# Altium footprint library Switch.PcbLib: 50 footprints (part 3 of 4)
Each footprint in its own frame and in the unit in brackets; x right, y up, seen from the top. Pads: shape width x height; smd on the part's side, far side on the other; paste and mask are expansions set on the pad; w line width, h text height; cw(c..) or ccw(c..) is an arc to the next point about the centre after c.
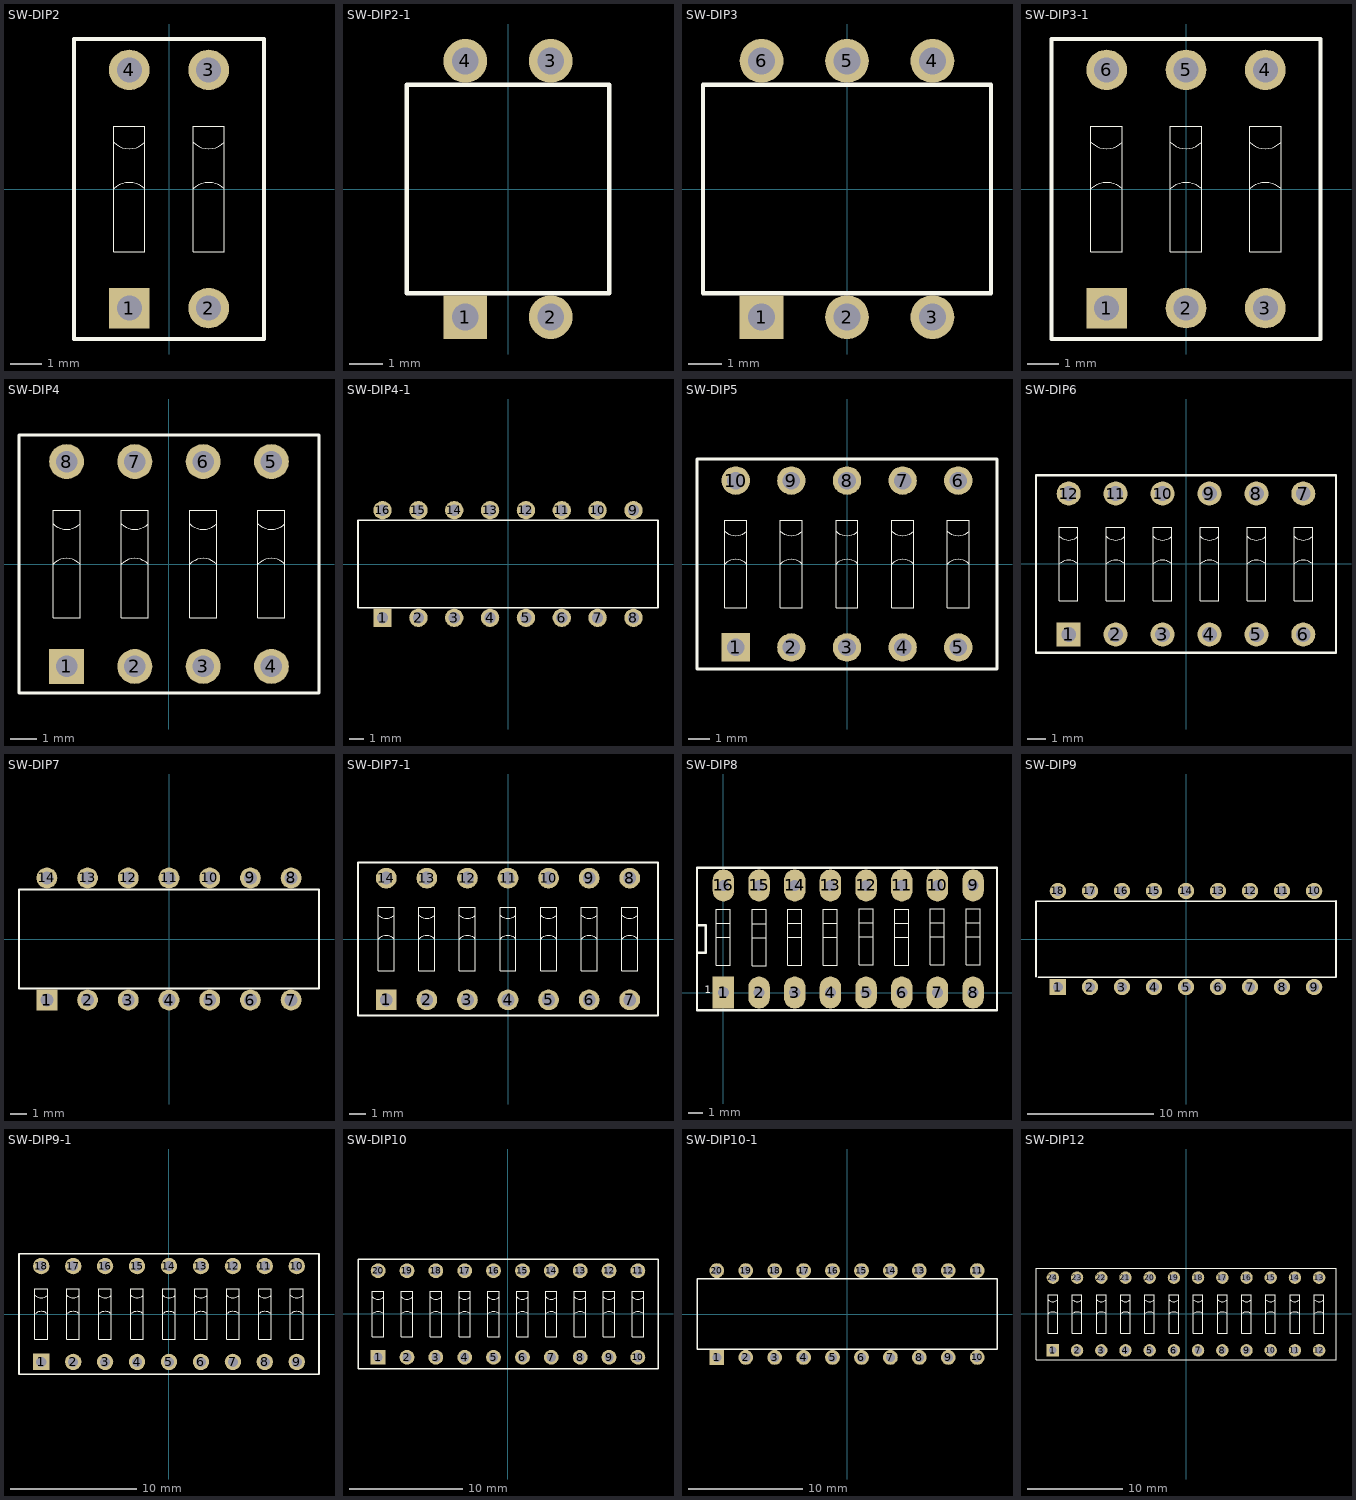
[diagram p2: the footprints below, top view; thin cyan lines are the x and y axes]

## SW-DIP2 [mm] "02p, 2.54mm Pitch, Horizontal, Box Type, THT, flat Actuator, red, without Tape, Tube"
height 5.2
pads (4):
  rect 1.3x1.3 hole 0.8: 1(-1.27,-3.81)
  round 1.3 hole 0.8: 2(1.27,-3.81) 3(1.27,3.81) 4(-1.27,3.81)
Top Overlay:
  lines w0.025: -1.77,0 cw(c-1.27,-0.5) -0.77,0 ; -1.77,1.5 ccw(c-1.27,2) -0.77,1.5 ; 0.77,0 cw(c1.27,-0.5) 1.77,0 ; 0.77,1.5 ccw(c1.27,2) 1.77,1.5 ; -1.77,-2 -1.77,2 -0.77,2 -0.77,-2 -1.77,-2 ; 0.77,-2 0.77,2 1.77,2 1.77,-2 0.77,-2
  lines w0.127: -3.04,-4.8 3.04,-4.8 ; -3.04,-4.8 -3.04,4.8 ; -3.04,-4.8 3.04,-4.8 ; -3.04,-4.8 -3.04,4.8 ; -3.04,4.8 3.04,4.8 ; -3.04,4.8 3.04,4.8 ; 3.04,-4.8 3.04,4.8 ; 3.04,-4.8 3.04,4.8
3D body "418117170902.stp": height 5.4, standoff -3.8, extent -3.04,-4.7 3.04,4.9

## SW-DIP2-1 [mm]
height 3.9
pads (4):
  rect 1.3x1.3 hole 0.8: 1(-1.27,-3.81)
  round 1.3 hole 0.8: 2(1.27,-3.81) 3(1.27,3.81) 4(-1.27,3.81)
Top Overlay:
  lines w0.127: -3.01,-3.1 -3.01,3.1 3.01,3.1 3.01,-3.1 -3.01,-3.1
3D body "418127270902.stp": height 3.95, standoff -3.65, extent -3.01,-3.985 3.01,3.885

## SW-DIP3 [mm] "03p, 2.54mm Pitch, Horizontal, IC Type, THT, raised Actuator, black, without Tape, Tube"
height 3.9
pads (6):
  rect 1.3x1.3 hole 0.8: 1(-2.54,-3.81)
  round 1.3 hole 0.8: 2(0,-3.81) 3(2.54,-3.81) 4(2.54,3.81) 5(0,3.81) 6(-2.54,3.81)
Top Overlay:
  lines w0.127: -4.28,-3.1 -4.28,3.1 4.28,3.1 4.28,-3.1 -4.28,-3.1
3D body "418127270903.stp": height 3.95, standoff -3.65, extent -4.28,-3.985 4.28,3.885

## SW-DIP3-1 [mm] "03p, 2.54mm Pitch, Horizontal, Box Type, THT, flat Actuator, red, without Tape, Tube"
height 5.2
pads (6):
  rect 1.3x1.3 hole 0.8: 1(-2.54,-3.81)
  round 1.3 hole 0.8: 2(0,-3.81) 3(2.54,-3.81) 4(2.54,3.81) 5(0,3.81) 6(-2.54,3.81)
Top Overlay:
  lines w0.025: -3.04,0 cw(c-2.54,-0.5) -2.04,0 ; -3.04,1.5 ccw(c-2.54,2) -2.04,1.5 ; -0.5,0 cw(c0,-0.5) 0.5,0 ; -0.5,1.5 ccw(c0,2) 0.5,1.5 ; 2.04,0 cw(c2.54,-0.5) 3.04,0 ; 2.04,1.5 ccw(c2.54,2) 3.04,1.5 ; -3.04,-2 -2.04,-2 -2.04,2 -3.04,2 -3.04,-2 ; -0.5,-2 0.5,-2 0.5,2 -0.5,2 -0.5,-2 ; 2.04,-2 3.04,-2 3.04,2 2.04,2 2.04,-2
  lines w0.127: -4.31,-4.8 -4.31,4.8 ; -4.31,-4.8 4.31,-4.8 ; -4.31,-4.8 -4.31,4.8 ; -4.31,-4.8 4.31,-4.8 ; -4.31,4.8 4.31,4.8 ; -4.31,4.8 4.31,4.8 ; 4.31,-4.8 4.31,4.8 ; 4.31,-4.8 4.31,4.8
3D body "418117170903.stp": height 5.4, standoff -3.8, extent -4.31,-4.8 4.31,4.8

## SW-DIP4 [mm] "04p, 2.54mm Pitch, Horizontal, Box Type, THT, flat Actuator, red, without Tape, Tube"
height 5.2
pads (8):
  rect 1.3x1.3 hole 0.8: 1(-3.81,-3.81)
  round 1.3 hole 0.8: 2(-1.27,-3.81) 3(1.27,-3.81) 4(3.81,-3.81) 5(3.81,3.81) 6(1.27,3.81) 7(-1.27,3.81) 8(-3.81,3.81)
Top Overlay:
  lines w0.025: -4.31,0 cw(c-3.81,-0.5) -3.31,0 ; -4.31,1.5 ccw(c-3.81,2) -3.31,1.5 ; -1.77,0 cw(c-1.27,-0.5) -0.77,0 ; -1.77,1.5 ccw(c-1.27,2) -0.77,1.5 ; 0.77,0 cw(c1.27,-0.5) 1.77,0 ; 0.77,1.5 ccw(c1.27,2) 1.77,1.5 ; 3.31,0 cw(c3.81,-0.5) 4.31,0 ; 3.31,1.5 ccw(c3.81,2) 4.31,1.5 ; -4.31,-2 -3.31,-2 -3.31,2 -4.31,2 -4.31,-2 ; -1.77,-2 -0.77,-2 -0.77,2 -1.77,2 -1.77,-2 ; 0.77,-2 1.77,-2 1.77,2 0.77,2 0.77,-2 ; 3.31,-2 4.31,-2 4.31,2 3.31,2 3.31,-2
  lines w0.127: -5.58,-4.8 5.58,-4.8 ; -5.58,-4.8 -5.58,4.8 ; -5.58,-4.8 5.58,-4.8 ; -5.58,-4.8 -5.58,4.8 ; -5.58,4.8 5.58,4.8 ; -5.58,4.8 5.58,4.8 ; 5.58,-4.8 5.58,4.8 ; 5.58,-4.8 5.58,4.8
3D body "418117170904.stp": height 5.4, standoff -3.8, extent -5.58,-4.8 5.58,4.8

## SW-DIP4-1 [mm] "08p, 2.54mm Pitch, Horizontal, IC Type, THT, raised Actuator, black, without Tape, Tube"
height 3.9
pads (16):
  rect 1.3x1.3 hole 0.8: 1(-8.89,-3.81)
  round 1.3 hole 0.8: 2(-6.35,-3.81) 3(-3.81,-3.81) 4(-1.27,-3.81) 5(1.27,-3.81) 6(3.81,-3.81) 7(6.35,-3.81) 8(8.89,-3.81) 9(8.89,3.81) 10(6.35,3.81) 11(3.81,3.81) 12(1.27,3.81) 13(-1.27,3.81) 14(-3.81,3.81) 15(-6.35,3.81) 16(-8.89,3.81)
Top Overlay:
  lines w0.127: -10.63,-3.1 10.63,-3.1 10.63,3.1 -10.63,3.1 -10.63,-3.1
3D body "418127270908.stp": height 3.95, standoff -3.65, extent -10.63,-3.985 10.63,3.885

## SW-DIP5 [mm] "05p, 2.54mm Pitch, Horizontal, Box Type, THT, flat Actuator, red, without Tape, Tube"
height 5.2
pads (10):
  rect 1.3x1.3 hole 0.8: 1(-5.08,-3.81)
  round 1.3 hole 0.8: 2(-2.54,-3.81) 3(0,-3.81) 4(2.54,-3.81) 5(5.08,-3.81) 6(5.08,3.81) 7(2.54,3.81) 8(0,3.81) 9(-2.54,3.81) 10(-5.08,3.81)
Top Overlay:
  lines w0.025: -5.58,0 cw(c-5.08,-0.5) -4.58,0 ; -5.58,1.5 ccw(c-5.08,2) -4.58,1.5 ; -3.04,0 cw(c-2.54,-0.5) -2.04,0 ; -3.04,1.5 ccw(c-2.54,2) -2.04,1.5 ; -0.5,0 cw(c0,-0.5) 0.5,0 ; -0.5,1.5 ccw(c0,2) 0.5,1.5 ; 2.04,0 cw(c2.54,-0.5) 3.04,0 ; 2.04,1.5 ccw(c2.54,2) 3.04,1.5 ; 4.58,0 cw(c5.08,-0.5) 5.58,0 ; 4.58,1.5 ccw(c5.08,2) 5.58,1.5 ; -5.58,-2 -4.58,-2 -4.58,2 -5.58,2 -5.58,-2 ; -3.04,-2 -2.04,-2 -2.04,2 -3.04,2 -3.04,-2 ; -0.5,-2 0.5,-2 0.5,2 -0.5,2 -0.5,-2 ; 2.04,-2 3.04,-2 3.04,2 2.04,2 2.04,-2 ; 4.58,-2 5.58,-2 5.58,2 4.58,2 4.58,-2
  lines w0.127: -6.85,-4.8 6.85,-4.8 ; -6.85,-4.8 -6.85,4.8 ; -6.85,-4.8 6.85,-4.8 ; -6.85,-4.8 -6.85,4.8 ; -6.85,4.8 6.85,4.8 ; -6.85,4.8 6.85,4.8 ; 6.85,-4.8 6.85,4.8 ; 6.85,-4.8 6.85,4.8
3D body "418117170905.stp": height 5.4, standoff -3.8, extent -6.85,-4.8 6.85,4.8

## SW-DIP6 [mm] "06p, 2.54mm Pitch, Horizontal, Box Type, THT, flat Actuator, red, without Tape, Tube"
height 5.2
pads (12):
  rect 1.3x1.3 hole 0.8: 1(-6.35,-3.81)
  round 1.3 hole 0.8: 2(-3.81,-3.81) 3(-1.27,-3.81) 4(1.27,-3.81) 5(3.81,-3.81) 6(6.35,-3.81) 7(6.35,3.81) 8(3.81,3.81) 9(1.27,3.81) 10(-1.27,3.81) 11(-3.81,3.81) 12(-6.35,3.81)
Top Overlay:
  lines w0.025: -6.85,0 cw(c-6.35,-0.5) -5.85,0 ; -6.85,1.5 ccw(c-6.35,2) -5.85,1.5 ; -4.31,0 cw(c-3.81,-0.5) -3.31,0 ; -4.31,1.5 ccw(c-3.81,2) -3.31,1.5 ; -1.77,0 cw(c-1.27,-0.5) -0.77,0 ; -1.77,1.5 ccw(c-1.27,2) -0.77,1.5 ; 0.77,0 cw(c1.27,-0.5) 1.77,0 ; 0.77,1.5 ccw(c1.27,2) 1.77,1.5 ; 3.31,0 cw(c3.81,-0.5) 4.31,0 ; 3.31,1.5 ccw(c3.81,2) 4.31,1.5 ; 5.85,0 cw(c6.35,-0.5) 6.85,0 ; 5.85,1.5 ccw(c6.35,2) 6.85,1.5 ; -6.85,-2 -6.85,2 -5.85,2 -5.85,-2 -6.85,-2 ; -4.31,-2 -4.31,2 -3.31,2 -3.31,-2 -4.31,-2 ; -1.77,-2 -1.77,2 -0.77,2 -0.77,-2 -1.77,-2 ; 0.77,-2 0.77,2 1.77,2 1.77,-2 0.77,-2 ; 3.31,-2 3.31,2 4.31,2 4.31,-2 3.31,-2 ; 5.85,-2 5.85,2 6.85,2 6.85,-2 5.85,-2
  lines w0.127: -8.12,-4.8 -8.12,4.8 ; -8.12,-4.8 8.12,-4.8 ; -8.12,-4.8 -8.12,4.8 ; -8.12,-4.8 8.12,-4.8 ; -8.12,4.8 8.12,4.8 ; -8.12,4.8 8.12,4.8 ; 8.12,-4.8 8.12,4.8 ; 8.12,-4.8 8.12,4.8
3D body "418117170906.stp": height 5.4, standoff -3.8, extent -8.12,-4.8 8.12,4.8

## SW-DIP7 [mm] "07p, 2.54mm Pitch, Horizontal, IC Type, THT, raised Actuator, black, without Tape, Tube"
height 3.9
pads (14):
  rect 1.3x1.3 hole 0.8: 1(-7.62,-3.81)
  round 1.3 hole 0.8: 2(-5.08,-3.81) 3(-2.54,-3.81) 4(0,-3.81) 5(2.54,-3.81) 6(5.08,-3.81) 7(7.62,-3.81) 8(7.62,3.81) 9(5.08,3.81) 10(2.54,3.81) 11(0,3.81) 12(-2.54,3.81) 13(-5.08,3.81) 14(-7.62,3.81)
Top Overlay:
  lines w0.127: -9.36,-3.1 9.36,-3.1 9.36,3.1 -9.36,3.1 -9.36,-3.1
3D body "418127270907.stp": height 3.95, standoff -3.65, extent -9.36,-3.985 9.36,3.885

## SW-DIP7-1 [mm] "07p, 2.54mm Pitch, Horizontal, Box Type, THT, flat Actuator, red, without Tape, Tube"
height 5.2
pads (14):
  rect 1.3x1.3 hole 0.8: 1(-7.62,-3.81)
  round 1.3 hole 0.8: 2(-5.08,-3.81) 3(-2.54,-3.81) 4(0,-3.81) 5(2.54,-3.81) 6(5.08,-3.81) 7(7.62,-3.81) 8(7.62,3.81) 9(5.08,3.81) 10(2.54,3.81) 11(0,3.81) 12(-2.54,3.81) 13(-5.08,3.81) 14(-7.62,3.81)
Top Overlay:
  lines w0.025: -8.12,0 cw(c-7.62,-0.5) -7.12,0 ; -8.12,1.5 ccw(c-7.62,2) -7.12,1.5 ; -5.58,0 cw(c-5.08,-0.5) -4.58,0 ; -5.58,1.5 ccw(c-5.08,2) -4.58,1.5 ; -3.04,0 cw(c-2.54,-0.5) -2.04,0 ; -3.04,1.5 ccw(c-2.54,2) -2.04,1.5 ; -0.5,0 cw(c0,-0.5) 0.5,0 ; -0.5,1.5 ccw(c0,2) 0.5,1.5 ; 2.04,0 cw(c2.54,-0.5) 3.04,0 ; 2.04,1.5 ccw(c2.54,2) 3.04,1.5 ; 4.58,0 cw(c5.08,-0.5) 5.58,0 ; 4.58,1.5 ccw(c5.08,2) 5.58,1.5 ; 7.12,0 cw(c7.62,-0.5) 8.12,0 ; 7.12,1.5 ccw(c7.62,2) 8.12,1.5 ; -8.12,-2 -7.12,-2 -7.12,2 -8.12,2 -8.12,-2 ; -5.58,-2 -4.58,-2 -4.58,2 -5.58,2 -5.58,-2 ; -3.04,-2 -2.04,-2 -2.04,2 -3.04,2 -3.04,-2 ; -0.5,-2 0.5,-2 0.5,2 -0.5,2 -0.5,-2 ; 2.04,-2 3.04,-2 3.04,2 2.04,2 2.04,-2 ; 4.58,-2 5.58,-2 5.58,2 4.58,2 4.58,-2 ; 7.12,-2 8.12,-2 8.12,2 7.12,2 7.12,-2
  lines w0.127: -9.39,-4.8 9.39,-4.8 ; -9.39,-4.8 -9.39,4.8 ; -9.39,-4.8 9.39,-4.8 ; -9.39,-4.8 -9.39,4.8 ; -9.39,4.8 9.39,4.8 ; -9.39,4.8 9.39,4.8 ; 9.39,-4.8 9.39,4.8 ; 9.39,-4.8 9.39,4.8
3D body "418117170907.stp": height 5.4, standoff -3.8, extent -9.39,-4.8 9.39,4.8

## SW-DIP8 [mil] "16 PIN, W 300mil, Pin to pin 100mil For Switch"
height 100
pads (16):
  rect 60x90 hole 31.5: 1(0,0)
  oval 60x90 hole 31.5: 2(100,0) 3(200,0) 4(300,0) 5(400,0) 6(500,0) 7(600,0) 8(700,0) 9(700,300) 10(600,300) 11(500,300) 12(400,300) 13(300,300) 14(200,300) 15(100,300) 16(0,300)
Top Overlay:
  lines w1.5: -19.68,155 19.68,155 ; -19.68,194.37 19.68,194.37 ; 80.31,154 119.69,154 ; 80.31,193.37 119.69,193.37 ; 180.31,155 219.69,155 ; 180.31,194.37 219.69,194.37 ; 280.31,155 319.69,155 ; 280.31,194.37 319.69,194.37 ; 380.31,156 419.69,156 ; 380.31,195.37 419.69,195.37 ; 480.31,155 519.68,155 ; 480.31,194.37 519.68,194.37 ; 580.32,156 619.68,156 ; 580.32,195.37 619.68,195.37 ; 680.32,156 719.68,156 ; 680.32,195.37 719.68,195.37 ; -19.68,76.26 19.68,76.26 19.68,233.74 -19.68,233.74 -19.68,76.26 ; 80.31,75.26 119.69,75.26 119.69,232.74 80.31,232.74 80.31,75.26 ; 180.31,76.26 219.69,76.26 219.69,233.74 180.31,233.74 180.31,76.26 ; 280.31,76.26 319.69,76.26 319.69,233.74 280.31,233.74 280.31,76.26 ; 380.31,77.26 419.69,77.26 419.69,234.74 380.31,234.74 380.31,77.26 ; 480.31,76.26 519.68,76.26 519.68,233.74 480.31,233.74 480.31,76.26 ; 580.32,77.26 619.68,77.26 619.68,234.74 580.32,234.74 580.32,77.26 ; 680.32,77.26 719.68,77.26 719.68,234.74 680.32,234.74 680.32,77.26
  lines w7: -74,69.5 -74,234 ; -74,111 -49,111 -49,189 -73,189 -74,190 ; -74,125 -74,-49 -73,-50 767,-50 767,350 -74,350 -74,175
  text "1" at -52,-2 h20
3D body "SW3dPS-DIP SWITCH 8 POS CTS 206.STEP": height 324.8, standoff -137.8, extent -92.91,-40 792.91,345.04

## SW-DIP9 [mm] "09p, 2.54mm Pitch, Horizontal, IC Type, THT, raised Actuator, black, without Tape, Tube"
height 3.9
pads (18):
  rect 1.3x1.3 hole 0.8: 1(-10.16,-3.81)
  round 1.3 hole 0.8: 2(-7.62,-3.81) 3(-5.08,-3.81) 4(-2.54,-3.81) 5(0,-3.81) 6(2.54,-3.81) 7(5.08,-3.81) 8(7.62,-3.81) 9(10.16,-3.81) 10(10.16,3.81) 11(7.62,3.81) 12(5.08,3.81) 13(2.54,3.81) 14(0,3.81) 15(-2.54,3.81) 16(-5.08,3.81) 17(-7.62,3.81) 18(-10.16,3.81)
Top Overlay:
  lines w0.127: -11.9,-3 -11.9,3 11.9,3 ; -11.7,-3.025 11.9,-3.025 11.9,3.025
3D body "418127270909.stp": height 3.95, standoff -3.65, extent -11.9,-3.985 11.9,3.885

## SW-DIP9-1 [mm] "09p, 2.54mm Pitch, Horizontal, Box Type, THT, flat Actuator, red, without Tape, Tube"
height 5.2
pads (18):
  rect 1.3x1.3 hole 0.8: 1(-10.16,-3.81)
  round 1.3 hole 0.8: 2(-7.62,-3.81) 3(-5.08,-3.81) 4(-2.54,-3.81) 5(0,-3.81) 6(2.54,-3.81) 7(5.08,-3.81) 8(7.62,-3.81) 9(10.16,-3.81) 10(10.16,3.81) 11(7.62,3.81) 12(5.08,3.81) 13(2.54,3.81) 14(0,3.81) 15(-2.54,3.81) 16(-5.08,3.81) 17(-7.62,3.81) 18(-10.16,3.81)
Top Overlay:
  lines w0.025: -10.66,0 cw(c-10.16,-0.5) -9.66,0 ; -10.66,1.5 ccw(c-10.16,2) -9.66,1.5 ; -8.12,0 cw(c-7.62,-0.5) -7.12,0 ; -8.12,1.5 ccw(c-7.62,2) -7.12,1.5 ; -5.58,0 cw(c-5.08,-0.5) -4.58,0 ; -5.58,1.5 ccw(c-5.08,2) -4.58,1.5 ; -3.04,0 cw(c-2.54,-0.5) -2.04,0 ; -3.04,1.5 ccw(c-2.54,2) -2.04,1.5 ; -0.5,0 cw(c0,-0.5) 0.5,0 ; -0.5,1.5 ccw(c0,2) 0.5,1.5 ; 2.04,0 cw(c2.54,-0.5) 3.04,0 ; 2.04,1.5 ccw(c2.54,2) 3.04,1.5 ; 4.58,0 cw(c5.08,-0.5) 5.58,0 ; 4.58,1.5 ccw(c5.08,2) 5.58,1.5 ; 7.12,0 cw(c7.62,-0.5) 8.12,0 ; 7.12,1.5 ccw(c7.62,2) 8.12,1.5 ; 9.66,0 cw(c10.16,-0.5) 10.66,0 ; 9.66,1.5 ccw(c10.16,2) 10.66,1.5 ; -10.66,-2 -10.66,2 -9.66,2 -9.66,-2 -10.66,-2 ; -8.12,-2 -8.12,2 -7.12,2 -7.12,-2 -8.12,-2 ; -5.58,-2 -5.58,2 -4.58,2 -4.58,-2 -5.58,-2 ; -3.04,-2 -3.04,2 -2.04,2 -2.04,-2 -3.04,-2 ; -0.5,-2 -0.5,2 0.5,2 0.5,-2 -0.5,-2 ; 2.04,-2 2.04,2 3.04,2 3.04,-2 2.04,-2 ; 4.58,-2 4.58,2 5.58,2 5.58,-2 4.58,-2 ; 7.12,-2 7.12,2 8.12,2 8.12,-2 7.12,-2 ; 9.66,-2 9.66,2 10.66,2 10.66,-2 9.66,-2
  lines w0.127: -11.93,-4.8 -11.93,4.8 ; -11.93,-4.8 11.93,-4.8 ; -11.93,-4.8 -11.93,4.8 ; -11.93,-4.8 11.93,-4.8 ; -11.93,4.8 11.93,4.8 ; -11.93,4.8 11.93,4.8 ; 11.93,-4.8 11.93,4.8 ; 11.93,-4.8 11.93,4.8
3D body "418117170909.stp": height 5.4, standoff -3.8, extent -11.93,-4.8 11.93,4.8

## SW-DIP10 [mm] "10p, 2.54mm Pitch, Horizontal, Box Type, THT, flat Actuator, red, without Tape, Tube"
height 5.2
pads (20):
  rect 1.3x1.3 hole 0.8: 1(-11.43,-3.81)
  round 1.3 hole 0.8: 2(-8.89,-3.81) 3(-6.35,-3.81) 4(-3.81,-3.81) 5(-1.27,-3.81) 6(1.27,-3.81) 7(3.81,-3.81) 8(6.35,-3.81) 9(8.89,-3.81) 10(11.43,-3.81) 11(11.43,3.81) 12(8.89,3.81) 13(6.35,3.81) 14(3.81,3.81) 15(1.27,3.81) 16(-1.27,3.81) 17(-3.81,3.81) 18(-6.35,3.81) 19(-8.89,3.81) 20(-11.43,3.81)
Top Overlay:
  lines w0.025: -11.93,0 cw(c-11.43,-0.5) -10.93,0 ; -11.93,1.5 ccw(c-11.43,2) -10.93,1.5 ; -9.39,0 cw(c-8.89,-0.5) -8.39,0 ; -9.39,1.5 ccw(c-8.89,2) -8.39,1.5 ; -6.85,0 cw(c-6.35,-0.5) -5.85,0 ; -6.85,1.5 ccw(c-6.35,2) -5.85,1.5 ; -4.31,0 cw(c-3.81,-0.5) -3.31,0 ; -4.31,1.5 ccw(c-3.81,2) -3.31,1.5 ; -1.77,0 cw(c-1.27,-0.5) -0.77,0 ; -1.77,1.5 ccw(c-1.27,2) -0.77,1.5 ; 0.77,0 cw(c1.27,-0.5) 1.77,0 ; 0.77,1.5 ccw(c1.27,2) 1.77,1.5 ; 3.31,0 cw(c3.81,-0.5) 4.31,0 ; 3.31,1.5 ccw(c3.81,2) 4.31,1.5 ; 5.85,0 cw(c6.35,-0.5) 6.85,0 ; 5.85,1.5 ccw(c6.35,2) 6.85,1.5 ; 8.39,0 cw(c8.89,-0.5) 9.39,0 ; 8.39,1.5 ccw(c8.89,2) 9.39,1.5 ; 10.93,0 cw(c11.43,-0.5) 11.93,0 ; 10.93,1.5 ccw(c11.43,2) 11.93,1.5 ; -11.93,-2 -10.93,-2 -10.93,2 -11.93,2 -11.93,-2 ; -9.39,-2 -8.39,-2 -8.39,2 -9.39,2 -9.39,-2 ; -6.85,-2 -5.85,-2 -5.85,2 -6.85,2 -6.85,-2 ; -4.31,-2 -3.31,-2 -3.31,2 -4.31,2 -4.31,-2 ; -1.77,-2 -0.77,-2 -0.77,2 -1.77,2 -1.77,-2 ; 0.77,-2 1.77,-2 1.77,2 0.77,2 0.77,-2 ; 3.31,-2 4.31,-2 4.31,2 3.31,2 3.31,-2 ; 5.85,-2 6.85,-2 6.85,2 5.85,2 5.85,-2 ; 8.39,-2 9.39,-2 9.39,2 8.39,2 8.39,-2 ; 10.93,-2 11.93,-2 11.93,2 10.93,2 10.93,-2
  lines w0.127: -13.2,-4.8 13.2,-4.8 ; -13.2,-4.8 -13.2,4.8 ; -13.2,-4.8 13.2,-4.8 ; -13.2,-4.8 -13.2,4.8 ; -13.2,4.8 13.2,4.8 ; -13.2,4.8 13.2,4.8 ; 13.2,-4.8 13.2,4.8 ; 13.2,-4.8 13.2,4.8
3D body "418117170910.stp": height 5.4, standoff -3.8, extent -13.2,-4.8 13.2,4.8

## SW-DIP10-1 [mm] "10p, 2.54mm Pitch, Horizontal, IC Type, THT, raised Actuator, black, without Tape, Tube"
height 3.9
pads (20):
  rect 1.3x1.3 hole 0.8: 1(-11.43,-3.81)
  round 1.3 hole 0.8: 2(-8.89,-3.81) 3(-6.35,-3.81) 4(-3.81,-3.81) 5(-1.27,-3.81) 6(1.27,-3.81) 7(3.81,-3.81) 8(6.35,-3.81) 9(8.89,-3.81) 10(11.43,-3.81) 11(11.43,3.81) 12(8.89,3.81) 13(6.35,3.81) 14(3.81,3.81) 15(1.27,3.81) 16(-1.27,3.81) 17(-3.81,3.81) 18(-6.35,3.81) 19(-8.89,3.81) 20(-11.43,3.81)
Top Overlay:
  lines w0.127: -13.17,-3.1 13.17,-3.1 13.17,3.1 -13.17,3.1 -13.17,-3.1
3D body "418127270910.stp": height 3.95, standoff -3.65, extent -13.17,-3.985 13.17,3.885

## SW-DIP12 [mm] "12p, 2.54mm Pitch, Horizontal, Box Type, THT, flat Actuator, red, without Tape, Tube"
height 5.2
pads (24):
  rect 1.3x1.3 hole 0.8: 1(-13.97,-3.81)
  round 1.3 hole 0.8: 2(-11.43,-3.81) 3(-8.89,-3.81) 4(-6.35,-3.81) 5(-3.81,-3.81) 6(-1.27,-3.81) 7(1.27,-3.81) 8(3.81,-3.81) 9(6.35,-3.81) 10(8.89,-3.81) 11(11.43,-3.81) 12(13.97,-3.81) 13(13.97,3.81) 14(11.43,3.81) 15(8.89,3.81) 16(6.35,3.81) 17(3.81,3.81) 18(1.27,3.81) 19(-1.27,3.81) 20(-3.81,3.81) 21(-6.35,3.81) 22(-8.89,3.81) 23(-11.43,3.81) 24(-13.97,3.81)
Top Overlay:
  lines w0.025: -14.47,0 cw(c-13.97,-0.5) -13.47,0 ; -14.47,1.5 ccw(c-13.97,2) -13.47,1.5 ; -11.93,0 cw(c-11.43,-0.5) -10.93,0 ; -11.93,1.5 ccw(c-11.43,2) -10.93,1.5 ; -9.39,0 cw(c-8.89,-0.5) -8.39,0 ; -9.39,1.5 ccw(c-8.89,2) -8.39,1.5 ; -6.85,0 cw(c-6.35,-0.5) -5.85,0 ; -6.85,1.5 ccw(c-6.35,2) -5.85,1.5 ; -4.31,0 cw(c-3.81,-0.5) -3.31,0 ; -4.31,1.5 ccw(c-3.81,2) -3.31,1.5 ; -1.77,0 cw(c-1.27,-0.5) -0.77,0 ; -1.77,1.5 ccw(c-1.27,2) -0.77,1.5 ; 0.77,0 cw(c1.27,-0.5) 1.77,0 ; 0.77,1.5 ccw(c1.27,2) 1.77,1.5 ; 3.31,0 cw(c3.81,-0.5) 4.31,0 ; 3.31,1.5 ccw(c3.81,2) 4.31,1.5 ; 5.85,0 cw(c6.35,-0.5) 6.85,0 ; 5.85,1.5 ccw(c6.35,2) 6.85,1.5 ; 8.39,0 cw(c8.89,-0.5) 9.39,0 ; 8.39,1.5 ccw(c8.89,2) 9.39,1.5 ; 10.93,0 cw(c11.43,-0.5) 11.93,0 ; 10.93,1.5 ccw(c11.43,2) 11.93,1.5 ; 13.47,0 cw(c13.97,-0.5) 14.47,0 ; 13.47,1.5 ccw(c13.97,2) 14.47,1.5 ; -14.47,-2 -13.47,-2 -13.47,2 -14.47,2 -14.47,-2 ; -11.93,-2 -10.93,-2 -10.93,2 -11.93,2 -11.93,-2 ; -9.39,-2 -8.39,-2 -8.39,2 -9.39,2 -9.39,-2 ; -6.85,-2 -5.85,-2 -5.85,2 -6.85,2 -6.85,-2 ; -4.31,-2 -3.31,-2 -3.31,2 -4.31,2 -4.31,-2 ; -1.77,-2 -0.77,-2 -0.77,2 -1.77,2 -1.77,-2 ; 0.77,-2 1.77,-2 1.77,2 0.77,2 0.77,-2 ; 3.31,-2 4.31,-2 4.31,2 3.31,2 3.31,-2 ; 5.85,-2 6.85,-2 6.85,2 5.85,2 5.85,-2 ; 8.39,-2 9.39,-2 9.39,2 8.39,2 8.39,-2 ; 10.93,-2 11.93,-2 11.93,2 10.93,2 10.93,-2 ; 13.47,-2 14.47,-2 14.47,2 13.47,2 13.47,-2
  lines w0.127: -15.74,-4.8 15.74,-4.8 ; -15.74,-4.8 -15.74,4.8 ; -15.74,-4.8 15.74,-4.8 ; -15.74,-4.8 -15.74,4.8 ; -15.74,4.8 15.74,4.8 ; -15.74,4.8 15.74,4.8 ; 15.74,-4.8 15.74,4.8 ; 15.74,-4.8 15.74,4.8
3D body "418117170912.stp": height 5.4, standoff -3.8, extent -15.74,-4.8 15.74,4.8